# EAGLE library part DSPIC33FJ16GSX02 (library microchip-dspic)
SMPS 28pin
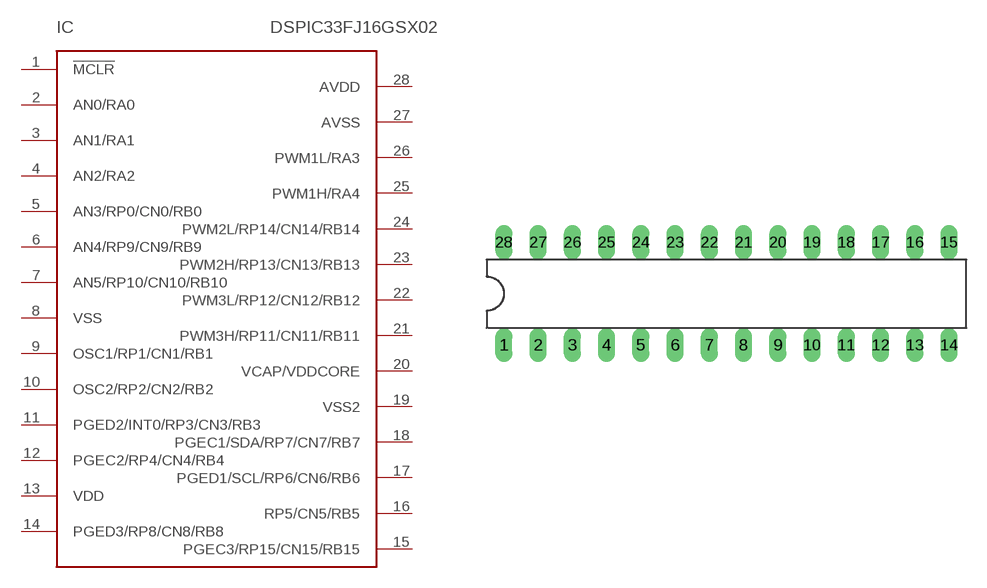
[diagram p28: symbol with the pads of DIL28-3; footprint DIL28-3]

Designator prefix IC

## DSPIC33FJ16GSX02SP  [DIL28-3]
1  !MCLR
2  AN0/RA0
3  AN1/RA1
4  AN2/RA2
5  AN3/RP0/CN0/RB0
6  AN4/RP9/CN9/RB9
7  AN5/RP10/CN10/RB10
8  VSS
9  OSC1/RP1/CN1/RB1
10  OSC2/RP2/CN2/RB2
11  PGED2/INT0/RP3/CN3/RB3
12  PGEC2/RP4/CN4/RB4
13  VDD
14  PGED3/RP8/CN8/RB8
15  PGEC3/RP15/CN15/RB15
16  RP5/CN5/RB5
17  PGED1/SCL/RP6/CN6/RB6
18  PGEC1/SDA/RP7/CN7/RB7
19  VSS2
20  VCAP/VDDCORE
21  PWM3H/RP11/CN11/RB11
22  PWM3L/RP12/CN12/RB12
23  PWM2H/RP13/CN13/RB13
24  PWM2L/RP14/CN14/RB14
25  PWM1H/RA4
26  PWM1L/RA3
27  AVSS
28  AVDD

## Footprint DIL28-3 (pad centres in mm)
Dual In Line package type P
drill 0.5 pad 1.27 long: 1 -16.51,-3.81; 2 -13.97,-3.81; 3 -11.43,-3.81; 4 -8.89,-3.81; 5 -6.35,-3.81; 6 -3.81,-3.81; 7 -1.27,-3.81; 8 1.27,-3.81; 9 3.81,-3.81; 10 6.35,-3.81; 11 8.89,-3.81; 12 11.43,-3.81; 13 13.97,-3.81; 14 16.51,-3.81; 15 16.51,3.81; 16 13.97,3.81; 17 11.43,3.81; 18 8.89,3.81; 19 6.35,3.81; 20 3.81,3.81; 21 1.27,3.81; 22 -1.27,3.81; 23 -3.81,3.81; 24 -6.35,3.81; 25 -8.89,3.81; 26 -11.43,3.81; 27 -13.97,3.81; 28 -16.51,3.81